# Altium schematic symbol library KS-01Q-01.SchLib: 1 symbol
Pins are listed as number, name and electrical type; pins without a type are passive.

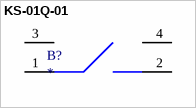
[diagram p0: symbol KS-01Q-01]

## KS-01Q-01
designator B?
OFF-MOM button/switch
pins: 1, 2, 3, 4